# Altium footprint library Footprint.PcbLib: 97 footprints (part 4 of 7)
Each footprint in its own frame and in the unit in brackets; x right, y up, seen from the top. Pads: shape width x height; smd on the part's side, far side on the other; paste and mask are expansions set on the pad; w line width, h text height; cw(c..) or ccw(c..) is an arc to the next point about the centre after c.
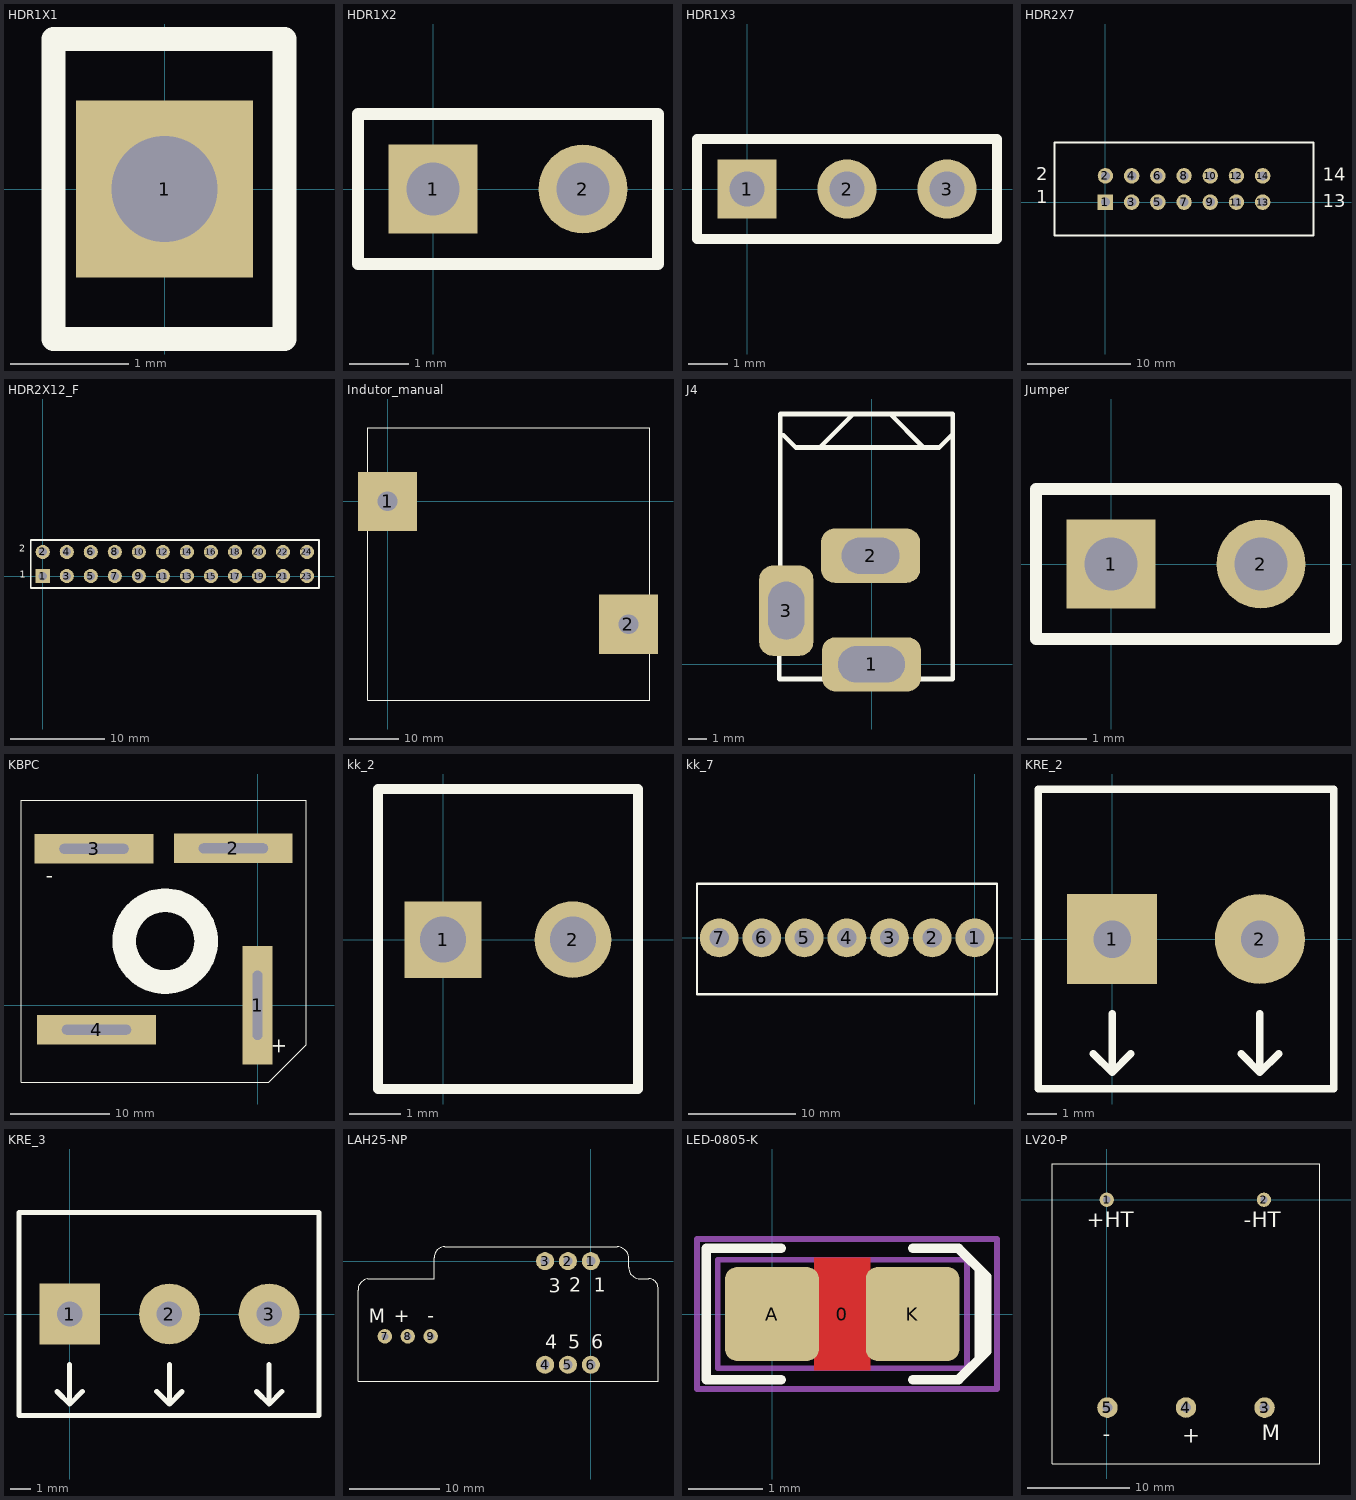
[diagram p3: the footprints below, top view; thin cyan lines are the x and y axes]

## HDR1X1 [mm] "Connector; Header; 1 Position"
pads (1):
  rect 1.5x1.5 hole 0.9: 1(0,0)
Top Overlay:
  lines w0.2: -0.94,-1.27 1.016,-1.27 1.016,-0.406 1.016,0.864 1.016,1.27 -0.94,1.27 -0.94,-1.27
3D body: height 5.11, standoff -3, extent -0.775,-1.118 0.876,1.091

## HDR1X2 [mm] "Connector; Header; 2 Position"
pads (2):
  rect 1.5x1.5 hole 0.9: 1(0,0)
  round 1.5 hole 0.9: 2(2.54,0)
Top Overlay:
  lines w0.2: -1.27,-1.27 -1.27,1.27 3.81,1.27 3.81,-1.27 -1.27,-1.27
3D body: height 6.4, standoff -3.61, extent -1.27,-1.27 3.81,1.27

## HDR1X3 [mm] "Connector; Header; 3 Position"
pads (3):
  rect 1.5x1.5 hole 0.9: 1(0,0)
  round 1.5 hole 0.9: 2(2.54,0) 3(5.08,0)
Top Overlay:
  lines w0.254: -1.27,-1.27 -1.27,1.27 6.35,1.27 6.35,-1.27 -1.27,-1.27
3D body: height 10.92, standoff -3.3, extent -1.092,-1.194 6.274,1.143

## HDR2X7 [mm] "Connector; Header; 7x2 Position"
pads (14):
  rect 1.5x1.5 hole 0.9: 1(0,0)
  round 1.5 hole 0.9: 2(0,2.54) 3(2.54,0) 4(2.54,2.54) 5(5.08,0) 6(5.08,2.54) 7(7.62,0) 8(7.62,2.54) 9(10.16,0) 10(10.16,2.54) 11(12.7,0) 12(12.7,2.54) 13(15.24,0) 14(15.24,2.54)
Top Overlay:
  lines w0.2: -4.928,-3.251 -4.928,5.791 20.168,5.791 20.168,-3.251 -4.928,-3.251
  text "2" at -6.731,2.134 h1.27
  text "1" at -6.731,-0.127 h1.27
  text "14" at 21.082,2.083 h1.27
  text "13" at 21.082,-0.508 h1.27
3D body: height 9.46, standoff -3.2, extent -5.08,-3.18 20.32,6.02

## HDR2X12_F [mm] "Connector; Box Header; 12x2 Position; Female"
pads (24):
  rect 1.5x1.5 hole 0.9: 1(0,0)
  round 1.5 hole 0.9: 2(0,2.54) 3(2.54,0) 4(2.54,2.54) 5(5.08,0) 6(5.08,2.54) 7(7.62,0) 8(7.62,2.54) 9(10.16,0) 10(10.16,2.54) 11(12.7,0) 12(12.7,2.54) 13(15.24,0) 14(15.24,2.54) 15(17.78,0) 16(17.78,2.54) 17(20.32,0) 18(20.32,2.54) 19(22.86,0) 20(22.86,2.54) 21(25.4,0) 22(25.4,2.54) 23(27.94,0) 24(27.94,2.54)
Top Overlay:
  lines w0.2: -1.27,-1.27 29.21,-1.27 29.21,3.81 -1.27,3.81 -1.27,-1.27
  text "2" at -2.515,2.286 h1.27
  text "1" at -2.438,-0.432 h1.27
3D body: height 8.9, standoff -3.2, extent -5.08,-3.18 33.02,5.92

## Indutor_manual [mm] "Indutor Manual 650uH"
height 52
pads (2):
  rect 12x12 hole 4: 1(0,0) 2(49,-25)
Top Overlay:
  lines w0.102: -4,-40.5 -4,15 53.3,15 53.3,-40.5 -4,-40.5
3D body: height 6, standoff 0, extent -1.5,-1.5 1.5,1.5
3D body: height 6, standoff 0, extent 47.468,-26.524 50.468,-23.524
3D body: height 51, standoff 0, extent 6.8,-30.557 42.8,5.443
3D body: height 21, standoff 0, extent 2.3,-44.3 2.7,-43.9
3D body: height 35, standoff 15, extent -4,-40.5 53.3,15
3D body: height 1, standoff 0, extent 41.75,-26.95 51.05,-23.25
3D body: height 1, standoff 0, extent -1.95,-1.85 7.35,1.85

## J4 [mm] "Conector de Alimentação para PCB Jack J4"
pads (3):
  rrect50% 5.5x3 hole 2 slot 3.7 at 0 deg: 1(0,0)
  rrect50% 5.5x3 hole 2 slot 3.2 at 0 deg: 2(-0.051,6.02)
  rrect50% 3x5 hole 2 slot 3.2 at 90 deg: 3(-4.724,2.972)
Top Overlay:
  lines w0.254: -5.055,5.334 -5.055,13.868 4.496,13.868 4.496,-0.813 2.14,-0.813 ; -4.953,4.242 -5.105,4.089 -5.105,-0.813 -1.988,-0.813 4.096,-0.813 ; -4.877,12.7 -4.191,12.014 -2.946,12.014 ; -1.054,13.83 -2.87,12.014 3.759,12.014 4.508,12.763 ; 1.041,13.868 2.819,12.09
3D body: height 11.05, standoff -3.45, extent -4.9,-0.7 4.5,13.7

## Jumper [mm] "Jumper 100mils"
pads (2):
  rect 1.5x1.5 hole 0.9: 1(0,0)
  round 1.5 hole 0.9: 2(2.54,0)
Top Overlay:
  lines w0.2: -1.27,-1.27 3.81,-1.27 3.81,1.27 -1.27,1.27 -1.27,-1.27
3D body: height 0.2, standoff 0.08, extent -0.381,-0.254 2.921,0.255
3D body: height 0.13, standoff -0.64, extent 2.162,-0.38 2.921,0.38
3D body: height 0.13, standoff -0.64, extent -0.38,-0.506 0.379,0.255
3D body: height 0.13, standoff -0.64, extent -0.38,-0.506 0.379,0.255

## KBPC [mm]
height 11
pads (4):
  rect 3x12 hole 1 slot 7 at 90 deg: 1(0,0)
  rect 12x3 hole 1 slot 7 at 0 deg: 2(-2.438,15.875) 3(-16.535,15.824) 4(-16.281,-2.464)
Top Overlay:
  circle w2.388: c-9.336,6.487 r4.138
  lines w0.102: -23.901,-7.763 -23.901,15.252 -23.901,20.737 -17.786,20.737 4.914,20.737 4.914,-3.996 1.146,-7.763 -23.901,-7.763
  text "+" at 1.564,-5.013 h1.52
  text "-" at -20.65,12.395 h1.52
3D body: height 6.72, standoff -15.28, extent -23.796,-7.955 4.804,20.645

## kk_2 [mm]
pads (2):
  rect 1.5x1.5 hole 0.9: 1(0,0)
  round 1.5 hole 0.9: 2(2.54,0)
Top Overlay:
  lines w0.2: -1.27,-2.921 3.81,-2.921 3.81,2.946 -1.27,2.946 -1.27,-2.921
3D body: height 11.72, standoff -3.52, extent -1.27,-2.972 3.81,2.87

## kk_7 [mm]
pads (7):
  round 3.6 hole 1.8 mask+0.102: 1(0,0) 2(-3.96,0) 3(-7.92,0) 4(-11.88,0) 5(-15.84,0) 6(-19.8,0) 7(-23.76,0)
Top Overlay:
  lines w0.2: -25.817,-5.232 -25.817,5.029 2.072,5.029 2.072,-5.232 -25.817,-5.232
3D body: height 14.83, standoff -3.46, extent -25.665,-5.105 1.919,4.902

## KRE_2 [mil] "Terminal Block 2 pins"
pads (2):
  rect 120x120 hole 50: 1(0,0)
  round 120 hole 50: 2(196.85,0)
Top Overlay:
  lines w10: -25,-153 0,-178 ; 0,-100 0,-178 ; 25,-153 0,-178 ; 171.85,-153 196.85,-178 ; 196.85,-100 196.85,-178 ; 221.85,-153 196.85,-178 ; -98.43,-200 295.28,-200 295.28,200 -98.43,200 -98.43,-200
3D body: height 559.07, standoff -137.8, extent -123.32,-189.76 294,215.76

## KRE_3 [mil] "Terminal Block 3 pins"
pads (3):
  rect 120x120 hole 50: 1(0,0)
  round 120 hole 50: 2(196.85,0) 3(393.7,0)
Top Overlay:
  lines w10: -25,-153 0,-178 ; 0,-100 0,-178 ; 25,-153 0,-178 ; 171.85,-153 196.85,-178 ; 196.85,-100 196.85,-178 ; 221.85,-153 196.85,-178 ; 368.7,-153 393.7,-178 ; 393.7,-100 393.7,-178 ; 418.7,-153 393.7,-178 ; -100,-200 492.13,-200 492.13,200 -100,200 -100,-200
3D body: height 559.07, standoff -137.8, extent -123.32,-189.76 490.85,215.76

## LAH25-NP [mm] "SENSOR CURRENT HALL 8A, 12A, 25A"
height 0.533
pads (9):
  round 2 hole 1: 1(0,0) 2(-2.54,0) 3(-5.08,0) 4(-5.08,-11.5) 5(-2.54,-11.5) 6(0,-11.5)
  round 1.6 hole 0.8: 7(-22.86,-8.35) 8(-20.32,-8.35) 9(-17.78,-8.35)
Top Overlay:
  lines w0.102: 2.93,1.599 -16.19,1.599 ccw(c-16.19,0.399) -17.39,0.399 -17.39,-1.955 -24.788,-1.955 ccw(c-24.575,-3.207) -25.845,-3.225 -25.845,-13.334 7.455,-13.334 7.455,-2.971 ccw(c6.439,-2.971) 6.439,-1.955 5.47,-1.955 cw(c5.47,-0.685) 4.2,-0.685 4.2,0.331 ccw(c2.93,0.331) 2.93,1.601
  text "M" at -22.832,-6.858 h1.52
  text "+" at -20.08,-6.8 h1.52
  text "-" at -17.38,-6.8 h1.52
  text "6" at 0.035,-9.726 h1.52
  text "5" at -2.505,-9.726 h1.52
  text "4" at -5.045,-9.726 h1.52
  text "1" at 0.32,-3.4 h1.52
  text "2" at -2.38,-3.4 h1.52
  text "3" at -4.68,-3.5 h1.52
3D body: height 20.2, standoff -5, extent -25.15,-13.37 8.15,1.5

## LED-0805-K [mil]
height 31.5
pads (3):
  round 20 on Mech15: 0(37.5,0)
  rrect25% 50x50 smd: A(0,0) K(75,0)
Top Layer:
  pour cut-out: 22.5,30 52.5,30 52.5,-30 22.5,-30
Top Overlay:
  lines w5: 5,-35 -35,-35 -35,35 5,35 ; 75,-35 99.5,-35 114.5,-20 114.5,20 99.5,35 75,35 ; 110.5,-24 110.5,24
Mechanical 13:
  lines w3: -29,-29 104,-29 104,29 -29,29 -29,-29
Mechanical 15:
  lines w3: -40,-40 120,-40 120,40 -40,40 -40,-40
3D body: height 31.5, standoff 11.81, extent 8.85,-24.6 63.99,24.61
3D body: height 11.81, standoff 3.94, extent -1.87,-24.61 76.87,24.61
3D body: height 3.94, standoff 0, extent -1.87,-24.61 76.87,24.61
3D body: height 3.94, standoff 0, extent 25.69,-15.75 49.31,15.75

## LV20-P [mm] "TRANSDUCR VOLTAG CLOSE LOOP 10MA"
height 15.1
pads (5):
  round 1.4 hole 0.7: 1(0,0) 2(15.369,0)
  round 2 hole 1: 3(15.434,-20.329) 4(7.749,-20.32) 5(0.065,-20.329)
Top Overlay:
  lines w0.102: -5.306,-25.841 -5.306,3.496 20.805,3.496 20.805,-25.841 -5.306,-25.841
  text "-" at -0.404,-23.631 h1.52
  text "+" at 7.394,-23.784 h1.52
  text "M" at 15.166,-23.53 h1.52
  text "-HT" at 13.388,-2.702 h1.52
  text "+HT" at -1.953,-2.702 h1.52
3D body: height 15.1, standoff -4.5, extent -5.251,-25.76 20.749,3.44